# Altium schematic symbol library Car_PCB.SCHLIB: 6 symbols
Pins are listed as number, name and electrical type; pins without a type are passive.

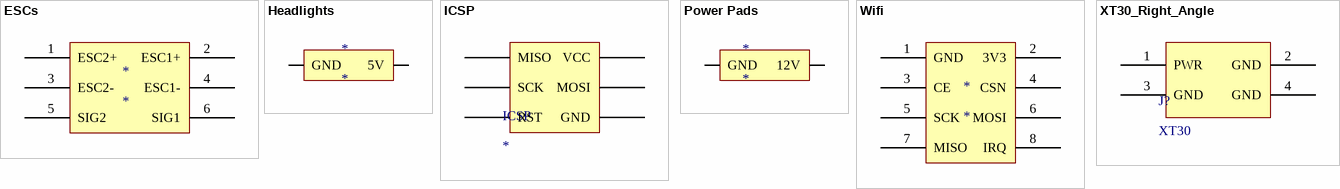
[diagram p0: symbols ESCs to XT30_Right_Angle]

## ESCs
designator *
footprint ESC Pads
pins: 1 ESC2+, 2 ESC1+, 3 ESC2-, 4 ESC1-, 5 SIG2, 6 SIG1

## Headlights
designator *
footprint Headlamps
pins: 1 GND, 2 5V

## ICSP
designator ICSP
footprint ICSP
pins: 1 VCC, 2 MOSI, 3 GND, 4 MISO, 5 SCK, 6 RST

## Power Pads
designator *
footprint Power_Switch
pins: 1 GND, 2 12V

## Wifi
designator *
footprint Wifi
pins: 1 GND, 2 3V3, 3 CE, 4 CSN, 5 SCK, 6 MOSI, 7 MISO, 8 IRQ

## XT30_Right_Angle
designator J?, comment XT30
Right angle version of XT30 that fits well on the pcb; MPN: GMX-D41D8CD98F00B204E9800998ECF8427E; Manufacturer: Amass; Value: XT30
footprint XT30 Right Angle
pins: 1 PWR, 2 GND, 3 GND, 4 GND